# EAGLE library part MCP6L92 (library MotorDriver)
2 Channel OP-AMP 10MHz, 850uA
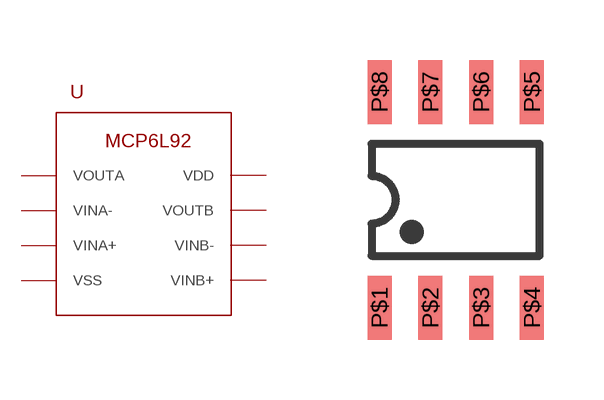
[diagram p1: symbol with the pads of SOIC-8; footprint SOIC-8]

Designator prefix U

## MCP6L92/SOIC-8  [SOIC-8]
P$1  VOUTA
P$2  VINA-
P$3  VINA+
P$4  VSS
P$5  VINB+
P$6  VINB-
P$7  VOUTB
P$8  VDD

## Footprint SOIC-8 (pad centres in mm)
smd 0.6 x 1.6: P$1 -1.8,-2.5; P$2 -0.53,-2.5; P$3 0.74,-2.5; P$4 2.01,-2.5; P$5 2.01,2.9; P$6 0.74,2.9; P$7 -0.53,2.9; P$8 -1.8,2.9